# Altium footprint library БУНЭ.PcbLib: 34 footprints (part 1 of 3)
Each footprint in its own frame and in the unit in brackets; x right, y up, seen from the top. Pads: shape width x height; smd on the part's side, far side on the other; paste and mask are expansions set on the pad; w line width, h text height; cw(c..) or ccw(c..) is an arc to the next point about the centre after c.
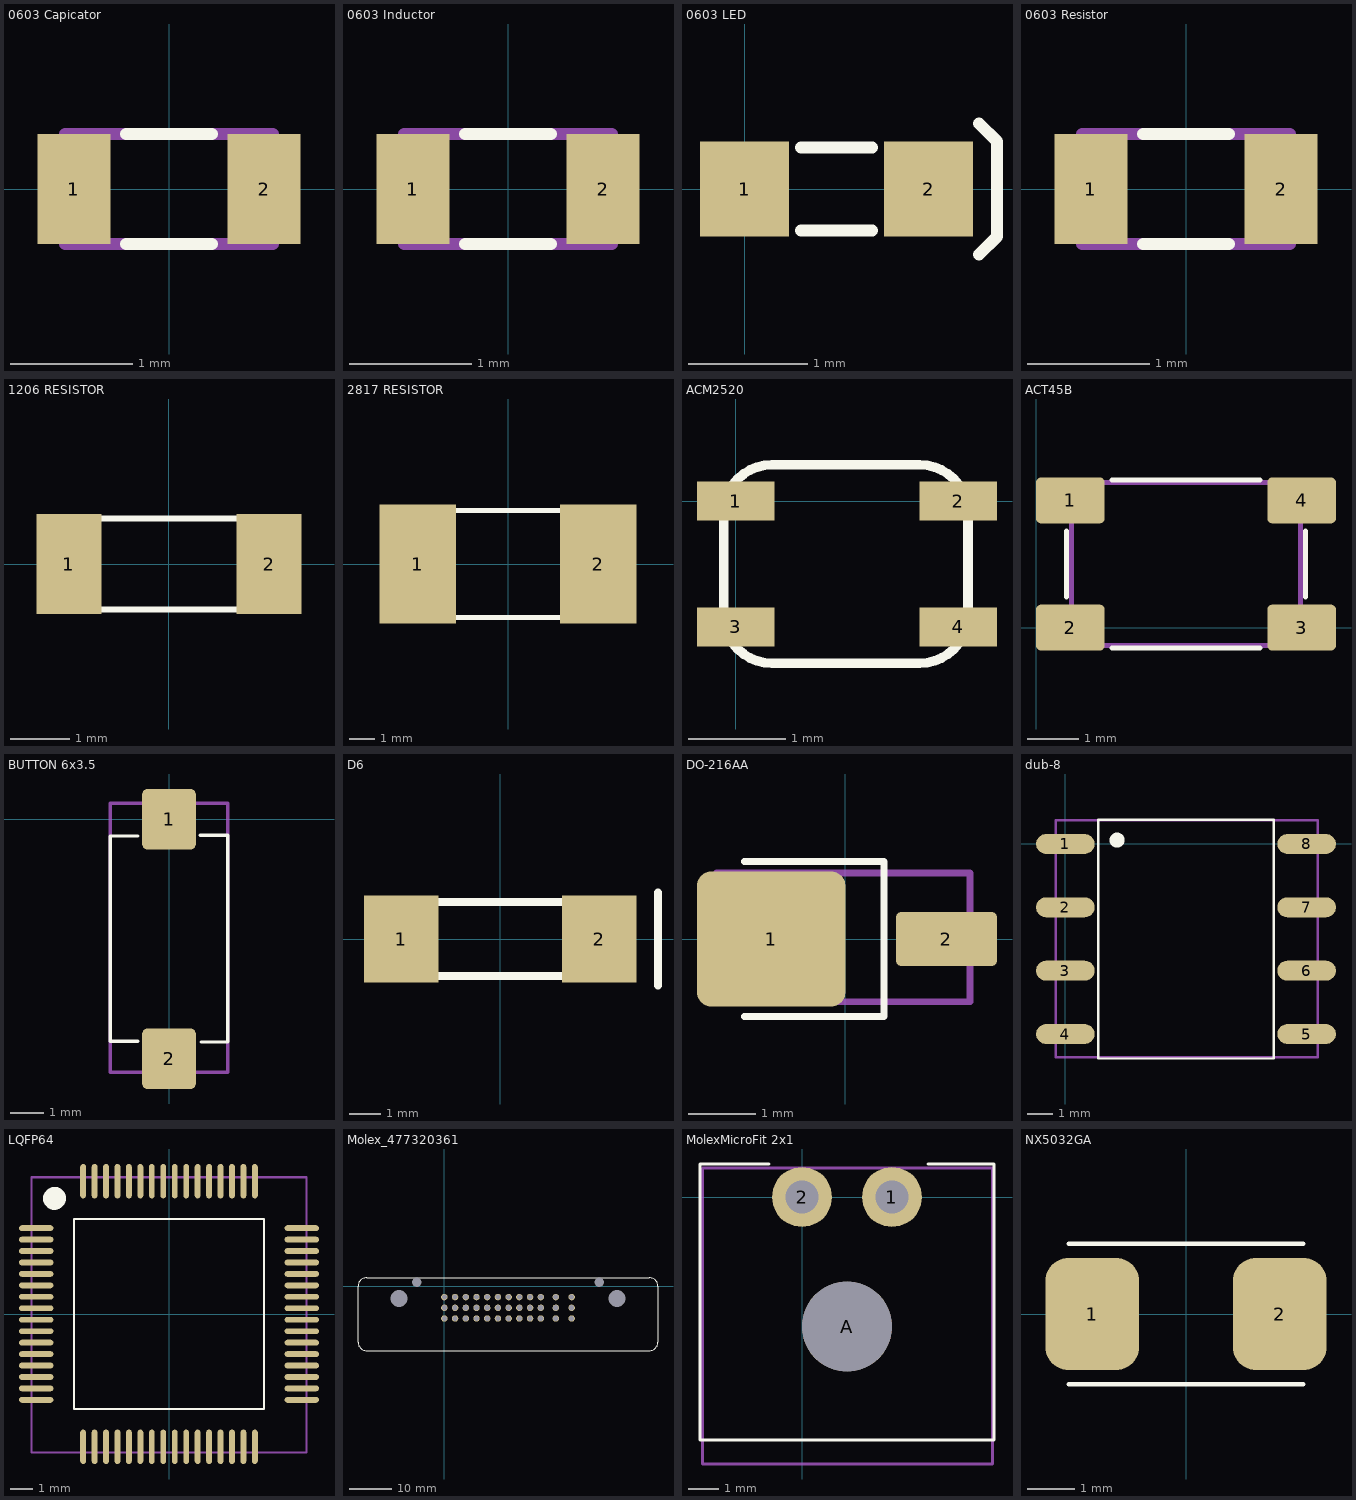
[diagram p0: the footprints below, top view; thin cyan lines are the x and y axes]

## 0603 Capicator [mm]
pads (2):
  rect 0.6x0.9 smd: 1(-0.78,0) 2(0.78,0)
Top Overlay:
  lines w0.1: -0.35,-0.45 0.35,-0.45 ; -0.35,0.45 0.35,0.45
Mechanical 13:
  lines w0.1: -0.85,-0.45 0.85,-0.45 0.85,0.45 -0.85,0.45 -0.85,-0.45
3D body "CAPC-0603-T0.9-BN.stp": height 0.9, standoff 0, extent -0.825,-0.45 0.875,0.45

## 0603 Inductor [mm]
pads (2):
  rect 0.6x0.9 smd: 1(-0.78,0) 2(0.78,0)
Top Overlay:
  lines w0.1: -0.35,-0.45 0.35,-0.45 ; -0.35,0.45 0.35,0.45
Mechanical 13:
  lines w0.1: -0.85,-0.45 0.85,-0.45 0.85,0.45 -0.85,0.45 -0.85,-0.45
3D body "INDC-0603.stp": height 0.95, standoff 0, extent -0.875,-0.475 0.875,0.475

## 0603 LED [mm]
pads (2):
  rect 0.75x0.8 smd: 1(0,0) 2(1.55,0)
Top Overlay:
  lines w0.1: 0.475,-0.35 1.075,-0.35 ; 0.475,0.35 1.075,0.35 ; 1.975,-0.55 2.125,-0.4 2.125,0.4 1.975,0.55
3D body "WL-SMCW SMT LED WURTH ELEKTRONIK 0603.step": height 0.7, standoff 0, extent -0.025,-0.35 1.575,0.35

## 0603 Resistor [mm]
pads (2):
  rect 0.6x0.9 smd: 1(-0.78,0) 2(0.78,0)
Top Overlay:
  lines w0.1: -0.35,-0.45 0.35,-0.45 ; -0.35,0.45 0.35,0.45
Mechanical 13:
  lines w0.1: -0.85,-0.45 -0.85,0.45 0.85,0.45 0.85,-0.45 -0.85,-0.45
3D body "RESC-0603.stp": height 0.55, standoff 0, extent -0.85,-0.45 0.85,0.45

## 1206 RESISTOR [mm] "smd"
pads (2):
  rect 1.1x1.7 smd: 1(-1.7,0) 2(1.7,0)
Top Overlay:
  lines w0.1: -1.55,-0.775 1.55,-0.775 1.55,0.775 -1.55,0.775 -1.55,-0.775
3D body "RES1206.stp": height 0.55, standoff 0, extent -1.55,-0.772 1.55,0.78

## 2817 RESISTOR [mm] "smd"
pads (2):
  rect 3x4.7 smd: 1(-3.55,0) 2(3.55,0)
Top Overlay:
  lines w0.2: -3.55,-1.1 ccw(c-2.55,-1.1) -2.55,-2.1 2.55,-2.1 ccw(c2.55,-1.1) 3.55,-1.1 3.55,1.1 ccw(c2.55,1.1) 2.55,2.1 -2.55,2.1 ccw(c-2.55,1.1) -3.55,1.1 -3.55,-1.1

## ACM2520 [mm]
pads (4):
  rect 0.8x0.4 smd: 1(0,0) 2(2.3,0) 3(0,-1.3) 4(2.3,-1.3)
Top Overlay:
  lines w0.1: -0.125,-1.175 ccw(c0.375,-1.175) 0.375,-1.675 1.9,-1.675 ccw(c1.9,-1.175) 2.4,-1.175 2.4,-0.125 ccw(c1.9,-0.125) 1.9,0.375 0.375,0.375 ccw(c0.375,-0.125) -0.125,-0.125 -0.125,-1.175
3D body "ACM2520.step": height 1.24, standoff 0.04, extent -0.115,-1.643 2.385,0.357

## ACT45B [mm]
pads (4):
  rrect20% 1.35x0.9 smd: 1(0.675,2.5) 2(0.675,0) 3(5.225,0) 4(5.225,2.5)
Top Overlay:
  lines w0.1: 0.6,0.6 0.6,1.9 ; 1.5,-0.4 4.4,-0.4 ; 1.5,2.9 4.4,2.9 ; 5.3,0.6 5.3,1.9
Mechanical 13:
  lines w0.1: 0.7,-0.35 0.7,2.85 5.2,2.85 5.2,-0.35 0.7,-0.35
3D body "ACT45B_GERMANY.STEP": height 3, standoff 0, extent 0.7,-0.35 5.2,2.85

## BUTTON 6x3.5 [mm]
pads (2):
  rrect20% 1.6x1.8 smd: 1(0,0) 2(0,-7.125)
Top Overlay:
  lines w0.1: -0.925,-6.6 -1.75,-6.6 -1.75,-0.5 -0.925,-0.5 ; 0.925,-0.475 1.75,-0.475 1.75,-6.625 0.95,-6.625
Mechanical 13:
  lines w0.1: -1.75,-7.525 1.75,-7.525 1.75,0.475 -1.675,0.475 -1.75,0.475 -1.75,-7.525
3D body "Tactile_Switch_SMD.step": height 4.3, standoff 0, extent -1.75,-7.525 1.75,0.475

## D6 [mm] "MURATA capacitors footprint"
pads (2):
  rect 2.4x2.8 smd: 1(-3.2,0) 2(3.2,0)
Top Overlay:
  lines w0.254: 5.1,-1.5 5.1,1.5 ; -3.7,-0.7 ccw(c-3.2,-0.7) -3.2,-1.2 3.2,-1.2 ccw(c3.2,-0.7) 3.7,-0.7 3.7,0.7 ccw(c3.2,0.7) 3.2,1.2 -3.2,1.2 ccw(c-3.2,0.7) -3.7,0.7 -3.7,-0.7
3D body "D6.stp": height 2.8, standoff 0, extent -3.65,-1.2 3.65,1.2

## DO-216AA [mm]
pads (2):
  rrect20% 2.2x2 smd: 1(-1.1,0)
  rrect20% 1.5x0.8 smd: 2(1.5,0)
Top Overlay:
  lines w0.1: -1.5,-1.15 0.575,-1.15 0.575,1.15 -1.5,1.15
Mechanical 13:
  lines w0.1: -1.91,-0.93 1.85,-0.93 1.85,0.98 -1.91,0.98 -1.91,-0.93
3D body "DO-216AA.step": height 1.02, standoff 0, extent -1.91,-0.93 1.85,0.98

## dub-8 [mm]
pads (8):
  oval 2.35x0.8 smd: 1(0,0) 2(0,-2.54) 3(0,-5.08) 4(0,-7.62) 5(9.675,-7.62) 6(9.675,-5.08) 7(9.675,-2.54) 8(9.675,0)
Top Overlay:
  circle w0.5: c2.075,0.15 r0.05
  lines w0.1: 1.325,-8.6 8.35,-8.6 8.35,0.975 1.325,0.975 1.325,-8.6
Mechanical 13:
  lines w0.1: -0.375,-8.55 10.125,-8.55 10.125,0.95 -0.375,0.95 -0.375,-8.55
3D body "User Library-8-DUB-1.STEP": height 4.2, standoff 0, extent -0.375,-8.55 10.125,0.95

## LQFP64 [mm]
pads (64):
  oval 1.5x0.254 smd paste+0 mask+0.02: 1(-5.8,3.75) 2(-5.8,3.25) 3(-5.8,2.75) 4(-5.8,2.25) 5(-5.8,1.75) 6(-5.8,1.25) 7(-5.8,0.75) 8(-5.8,0.25) 9(-5.8,-0.25) 10(-5.8,-0.75) 11(-5.8,-1.25) 12(-5.8,-1.75) 13(-5.8,-2.25) 14(-5.8,-2.75) 15(-5.8,-3.25) 16(-5.8,-3.75) 33(5.8,-3.75) 34(5.8,-3.25) 35(5.8,-2.75) 36(5.8,-2.25) 37(5.8,-1.75) 38(5.8,-1.25) 39(5.8,-0.75) 40(5.8,-0.25) 41(5.8,0.25) 42(5.8,0.75) 43(5.8,1.25) 44(5.8,1.75) 45(5.8,2.25) 46(5.8,2.75) 47(5.8,3.25) 48(5.8,3.75)
  oval 0.254x1.5 smd paste+0 mask+0.02: 17(-3.75,-5.8) 18(-3.25,-5.8) 19(-2.75,-5.8) 20(-2.25,-5.8) 21(-1.75,-5.8) 22(-1.25,-5.8) 23(-0.75,-5.8) 24(-0.25,-5.8) 25(0.25,-5.8) 26(0.75,-5.8) 27(1.25,-5.8) 28(1.75,-5.8) 29(2.25,-5.8) 30(2.75,-5.8) 31(3.25,-5.8) 32(3.75,-5.8) 49(3.75,5.8) 50(3.25,5.8) 51(2.75,5.8) 52(2.25,5.8) 53(1.75,5.8) 54(1.25,5.8) 55(0.75,5.8) 56(0.25,5.8) 57(-0.25,5.8) 58(-0.75,5.8) 59(-1.25,5.8) 60(-1.75,5.8) 61(-2.25,5.8) 62(-2.75,5.8) 63(-3.25,5.8) 64(-3.75,5.8)
Top Overlay:
  circle w0.6: c-5,5.05 r0.2
  lines w0.1: -4.15,-4.15 4.15,-4.15 4.15,4.15 -4.15,4.15 -4.15,-4.15
Mechanical 13:
  lines w0.1: -6,-6.05 6,-6.05 6,5.975 -6,5.975 -6,-6.05
3D body "User Library-LQFP64-1.step": height 1.56, standoff 0, extent -6,-6.025 6,5.975

## Molex_477320361 [mm] "Molex PCB Header 48 pin"
pads (40):
  round 1.5 hole 1.2: 2A(0,-2.5) 2B(2.5,-2.5) 2C(5,-2.5) 2D(7.5,-2.5) 2E(10,-2.5) 2F(12.5,-2.5) 2G(15,-2.5) 2H(17.5,-2.5) 2J(20,-2.5) 2K(22.5,-2.5) 2L(26,-2.5) 2M(29.7,-2.5) 3A(0,-5) 3B(2.5,-5) 3C(5,-5) 3D(7.5,-5) 3E(10,-5) 3F(12.5,-5) 3G(15,-5) 3H(17.5,-5) 3J(20,-5) 3K(22.5,-5) 3L(26,-5) 3M(29.7,-5) 4A(0,-7.5) 4B(2.5,-7.5) 4C(5,-7.5) 4D(7.5,-7.5) 4E(10,-7.5) 4F(12.5,-7.5) 4G(15,-7.5) 4H(17.5,-7.5) 4J(20,-7.5) 4K(22.5,-7.5) 4L(26,-7.5) 4M(29.7,-7.5)
  round 1.524 hole 4: 4(-10.55,-2.85) 7(40.25,-2.85)
  round 1.524 hole 2.2: 5(-6.45,1) 6(36.15,1)
Top Overlay:
  lines w0.254: -20.15,-13 ccw(c-18.15,-13) -18.15,-15 47.85,-15 ccw(c47.85,-13) 49.85,-13 49.85,0 ccw(c47.85,0) 47.85,2 -18.15,2 ccw(c-18.15,0) -20.15,0 -20.15,-13
3D body "477320361.stp": height 27.6, standoff -5.65, extent -20.1,-47 49.812,2

## MolexMicroFit 2x1 [mm]
pads (3):
  round 2 hole 1.1: 1(3,0) 2(0,0)
  round 3 hole 3: A(1.5,-4.32)
Top Overlay:
  lines w0.1: -1.1,1.1 -3.4,1.1 -3.4,-8.1 6.4,-8.1 6.4,1.1 4.2,1.1
Mechanical 13:
  lines w0.1: -3.325,-8.9 6.35,-8.9 6.35,0.975 -3.325,0.975 -3.325,-8.9
3D body "436500200.stp": height 5.64, standoff -3.27, extent -3.325,-8.9 6.325,1

## NX5032GA [mm] "Crystal"
pads (2):
  rrect50% 2x2.4 smd: 1(-2,0) 2(2,0)
Top Overlay:
  lines w0.1: -2.5,-1.5 2.5,-1.5 ; -2.5,1.5 2.5,1.5
3D body "NX5032GA-8.000M-STD-CSU-1.STEP": height 1.5, standoff 0, extent -2.5,-1.6 2.5,1.6